# Altium footprint library HSEC816001LRA.PcbLib: 1 footprints
Each footprint in its own frame and in the unit in brackets; x right, y up, seen from the top. Pads: shape width x height; smd on the part's side, far side on the other; paste and mask are expansions set on the pad; w line width, h text height; cw(c..) or ccw(c..) is an arc to the next point about the centre after c.
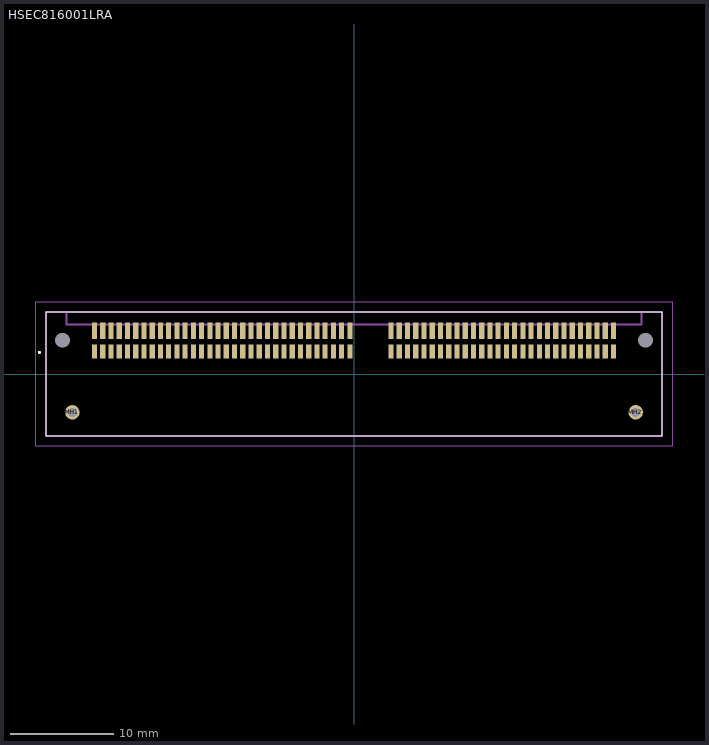
[diagram p0: the footprint, top view; thin cyan lines are the x and y axes]

## HSEC816001LRA [mm]
pads (124):
  rect 0.5x1.35 smd: 1(-25.2,2.2) 3(-24.4,2.2) 5(-23.6,2.2) 7(-22.8,2.2) 9(-22,2.2) 11(-21.2,2.2) 13(-20.4,2.2) 15(-19.6,2.2) 17(-18.8,2.2) 19(-18,2.2) 21(-17.2,2.2) 23(-16.4,2.2) 25(-15.6,2.2) 27(-14.8,2.2) 29(-14,2.2) 31(-13.2,2.2) 33(-12.4,2.2) 35(-11.6,2.2) 37(-10.8,2.2) 39(-10,2.2) 41(-9.2,2.2) 43(-8.4,2.2) 45(-7.6,2.2) 47(-6.8,2.2) 49(-6,2.2) 51(-5.2,2.2) 53(-4.4,2.2) 55(-3.6,2.2) 57(-2.8,2.2) 59(-2,2.2) 61(-1.2,2.2) 63(-0.4,2.2) 65(3.6,2.2) 67(4.4,2.2) 69(5.2,2.2) 71(6,2.2) 73(6.8,2.2) 75(7.6,2.2) 77(8.4,2.2) 79(9.2,2.2) 81(10,2.2) 83(10.8,2.2) 85(11.6,2.2) 87(12.4,2.2) 89(13.2,2.2) 91(14,2.2) 93(14.8,2.2) 95(15.6,2.2) 97(16.4,2.2) 99(17.2,2.2) 101(18,2.2) 103(18.8,2.2) 105(19.6,2.2) 107(20.4,2.2) 109(21.2,2.2) 111(22,2.2) 113(22.8,2.2) 115(23.6,2.2) 117(24.4,2.2) 119(25.2,2.2)
  rect 0.5x1.65 smd: 2(-25.2,4.2) 4(-24.4,4.2) 6(-23.6,4.2) 8(-22.8,4.2) 10(-22,4.2) 12(-21.2,4.2) 14(-20.4,4.2) 16(-19.6,4.2) 18(-18.8,4.2) 20(-18,4.2) 22(-17.2,4.2) 24(-16.4,4.2) 26(-15.6,4.2) 28(-14.8,4.2) 30(-14,4.2) 32(-13.2,4.2) 34(-12.4,4.2) 36(-11.6,4.2) 38(-10.8,4.2) 40(-10,4.2) 42(-9.2,4.2) 44(-8.4,4.2) 46(-7.6,4.2) 48(-6.8,4.2) 50(-6,4.2) 52(-5.2,4.2) 54(-4.4,4.2) 56(-3.6,4.2) 58(-2.8,4.2) 60(-2,4.2) 62(-1.2,4.2) 64(-0.4,4.2) 66(3.6,4.2) 68(4.4,4.2) 70(5.2,4.2) 72(6,4.2) 74(6.8,4.2) 76(7.6,4.2) 78(8.4,4.2) 80(9.2,4.2) 82(10,4.2) 84(10.8,4.2) 86(11.6,4.2) 88(12.4,4.2) 90(13.2,4.2) 92(14,4.2) 94(14.8,4.2) 96(15.6,4.2) 98(16.4,4.2) 100(17.2,4.2) 102(18,4.2) 104(18.8,4.2) 106(19.6,4.2) 108(20.4,4.2) 110(21.2,4.2) 112(22,4.2) 114(22.8,4.2) 116(23.6,4.2) 118(24.4,4.2) 120(25.2,4.2)
  round 1.397 hole 0.86: MH1(-27.35,-3.725) MH2(27.35,-3.725)
  round 0.725 hole 1.45 unplated: MH3(28.3,3.275) MH4(-28.3,3.275)
Top Overlay:
  lines w0.1: -29.9,-6.025 29.9,-6.025 29.9,6.025 -29.9,6.025 -29.9,-6.025
  lines w0.2: -30.6,2.1 -30.6,2.1 ; -30.6,2.1 ccw(c-30.55,2.1) -30.5,2.1 ; -30.6,2.1 cw(c-30.55,2.1) -30.5,2.1 ; -30.6,2.1 -30.6,2.1 ; -30.6,2.1 ccw(c-30.55,2.1) -30.5,2.1 ; -30.5,2.1 -30.5,2.1
Mechanical 15:
  lines w0.2: -29.9,-6.025 29.9,-6.025 29.9,6.025 -29.9,6.025 -29.9,-6.025 ; -27.9,4.8 27.9,4.8 27.9,6 -27.9,6 -27.9,4.8
Mechanical 20:
  lines w0.1: -30.9,-7.025 30.9,-7.025 30.9,7.025 -30.9,7.025 -30.9,-7.025